# Altium footprint library DW-05-09-L-D-375.PcbLib: 1 footprints
Each footprint in its own frame and in the unit in brackets; x right, y up, seen from the top. Pads: shape width x height; smd on the part's side, far side on the other; paste and mask are expansions set on the pad; w line width, h text height; cw(c..) or ccw(c..) is an arc to the next point about the centre after c.
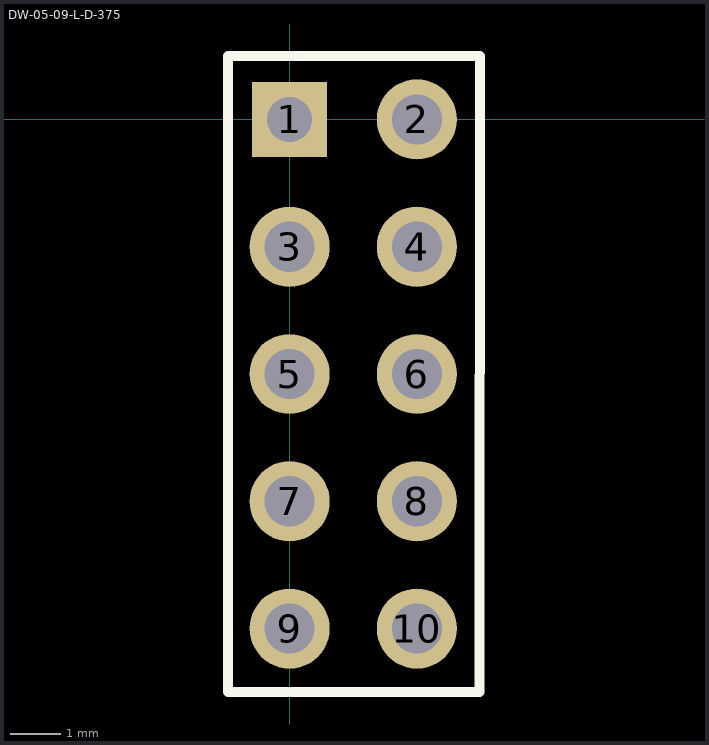
[diagram p0: the footprint, top view; thin cyan lines are the x and y axes]

## DW-05-09-L-D-375 [mm]
pads (10):
  rect 1.5x1.5 hole 0.9: 1(0,0)
  round 1.6 hole 1 mask+0.05: 2(2.54,0) 3(0,-2.54) 4(2.54,-2.54) 5(0,-5.08) 6(2.54,-5.08) 7(0,-7.62) 8(2.54,-7.62) 9(0,-10.16) 10(2.54,-10.16)
Top Overlay:
  lines w0.2: -1.23,-11.43 3.791,-11.43 3.8,1.27 -1.23,1.27 -1.23,-11.43
Top Assembly:
  lines w0.05: -1.23,-11.43 3.791,-11.43 3.8,1.27 -1.23,1.27 -1.23,-11.43
Top Courtyard:
  lines w0.05: -1.23,-11.43 -1.23,1.27 3.8,1.27 3.791,-11.43 -1.23,-11.43
3D body "DW-05-09-L-D-375.stp": height 15.75, standoff -2.79, extent -1.27,-11.43 3.81,1.27